# EAGLE library part MAX3078E (library MRDT-ICs)
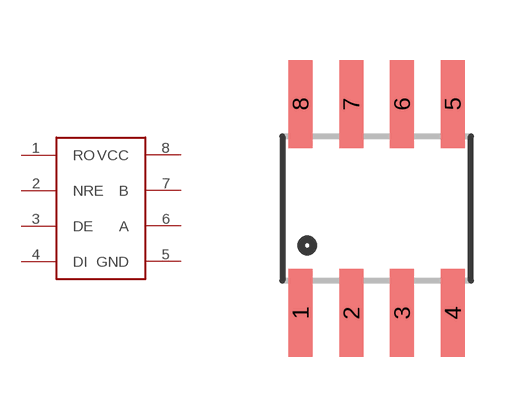
[diagram p0: symbol with the pads of SOIC8; footprint SOIC8]

Designator prefix -

## MAX3078E  [SOIC8]
1  RO
2  NRE
3  DE
4  DI
5  GND
6  A
7  B
8  VCC

## Footprint SOIC8 (pad centres in mm)
smd 0.6 x 2.2: 1 0.457,-0.813; 2 1.727,-0.813; 3 2.997,-0.813; 4 4.267,-0.813; 5 4.267,4.419; 6 2.997,4.419; 7 1.727,4.419; 8 0.457,4.419